# Altium schematic symbol library USB2UART.SchLib: 2 symbols
Pins are listed as number, name and electrical type; pins without a type are passive.

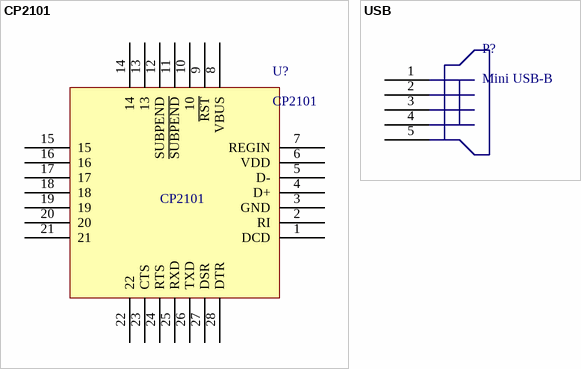
[diagram p0: symbols CP2101 to USB]

## CP2101
designator U?
footprint QFN50P500X500-28VAN (28-Pin Plastic Quad Flat No-Lead 0.5 mm Pitch)
pins: 1 DCD, 2 RI, 3 GND, 4 D+, 5 D-, 6 VDD, 7 REGIN, 8 VBUS, 9 ~{RST}, 10, 11 ~{SUBPEND}, 12 SUBPEND, 13, 14, 15, 16, 17, 18, 19, 20, 21, 22, 23 CTS, 24 RTS, 25 RXD, 26 TXD, 27 DSR, 28 DTR

## USB
designator P?, comment Mini USB-B
Mini USB Type B
footprint MINI USB-501
pins: 1, 2, 3, 4, 5